# Altium schematic symbol library RC0402FR-0782KL.SchLib: 1 symbol
Pins are listed as number, name and electrical type; pins without a type are passive.

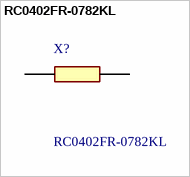
[diagram p0: symbol RC0402FR-0782KL]

## RC0402FR-0782KL
designator X?
RESISTOR, 0402 82K Ohms +/-1% 1/16 W; Manufacturer_Name: Yageo Group; Geometry.Height: 0.4mm; Mouser Part Number: 603-RC0402FR-0782KL; Mouser Price/Stock: https://www.mouser.co.uk/ProductDetail/YAGEO/RC0402FR-0782KL?qs=%252B0HKy5qiMX%252BeWGv%2FCX8bvg%3D%3D; Manufacturer_Part_Number: RC0402FR-0782KL; Datasheet Link: http://www.yageo.com/documents/recent/PYu-RC0402_51_RoHS_L_6_r.pdf
footprint RESC1005X40N
pins: 1, 2